# Altium schematic symbol library Schlib1.SchLib: 2 symbols
Pins are listed as number, name and electrical type; pins without a type are passive.

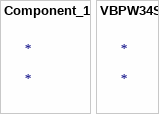
[diagram p0: symbols Component_1 to VBPW34S]

## Component_1
designator *

## VBPW34S
designator *
IR-photodiode Photoelectric current: 45...55 uA Wavelength of max. photosensitivity: 940 nm; Manufacturer: Vishay; Manufacturer Part Number: VBPW34S; Breakdown Voltage: 60V; Dark Current: 30nA; Diode Type: PIN; Fall Time: 100ns; Forward Current: 50mA; Forward Voltage: 1.3V; Max Power Dissipation: 215mW; Number of Circuits: 1; Peak Wavelength: 940nm; Viewing Angle: 130°; Supplier: DigiKey; Supplier Part Number: 751-1500-1-ND; RoHS: Compliant; Category: Photodiodes; Stock: 49982; Pricing: 1=1.17, 10=0.822, 100=0.6118, 500=0.5182 (USD); Case/Package: SMD/SMT; Contact Plating: Tin; Height: 1.2mm; Introduction Date: 2009-10-04; Lead Free: Lead Free; Length: 4.4mm; Lifecycle Status: Production; Max Operating Temperature: 100°C; Max Reverse Voltage (DC): 60V; Min Operating Temperature: -40°C; Mounting Technology: Surface Mount; Pins: 2; Power Dissipation: 215mW; Radiation Hardening: No; REACH SVHC: Yes; Response Time: 100ns; Reverse Breakdown Voltage: 60V; Reverse Voltage: 60V; Reverse Voltage (DC): 60V; Rise Time: 100ns; Schedule B: 8541406010, 8541406010|8541406010|8541406010|8541406010|8541406010; Wavelength: 940nm; Width: 3.9mm; ComponentLink1URL: https://datasheet.octopart.com:443/VBPW34S-Vishay-datasheet-181477396.pdf?src-supplier=IHS; ComponentLink1Description: https://datasheet.octopart.com:443/VBPW34S-Vishay-datasheet-181477396.pdf?src-supplier=IHS; ComponentLink2URL: https://datasheet.octopart.com:443/VBPW34S-Vishay-datasheet-141435336.pdf?src-supplier=Upverter; ComponentLink2Description: https://datasheet.octopart.com:443/VBPW34S-Vishay-datasheet-141435336.pdf?src-supplier=Upverter; ComponentLink3URL: https://datasheet.octopart.com:443/VBPW34S-Vishay-datasheet-8636772.pdf?src-supplier=Farnell; ComponentLink3Description: https://datasheet.octopart.com:443/VBPW34S-Vishay-datasheet-8636772.pdf?src-supplier=Farnell; ComponentLink4URL: https://datasheet.octopart.com:443/VBPW34S-Vishay-datasheet-24897338.pdf?src-supplier=Farnell; ComponentLink4Description: https://datasheet.octopart.com:443/VBPW34S-Vishay-datasheet-24897338.pdf?src-supplier=Farnell; ComponentLink5URL: https://datasheet.octopart.com:443/VBPW34S-Vishay-datasheet-41195834.pdf?src-supplier=Farnell; ComponentLink5Description: https://datasheet.octopart.com:443/VBPW34S-Vishay-datasheet-41195834.pdf?src-supplier=Farnell; ComponentLink6URL: https://datasheet.octopart.com:443/VBPW34S-Vishay-datasheet-62319496.pdf?src-supplier=Newark; ComponentLink6Description: https://datasheet.octopart.com:443/VBPW34S-Vishay-datasheet-62319496.pdf?src-supplier=Newark; ComponentLink7URL: https://datasheet.octopart.com:443/VBPW34S-Vishay-datasheet-8820987.pdf?src-supplier=element14+APAC; ComponentLink7Description: https://datasheet.octopart.com:443/VBPW34S-Vishay-datasheet-8820987.pdf?src-supplier=element14+APAC; ComponentLink8URL: https://datasheet.octopart.com:443/VBPW34S-Vishay-datasheet-108049364.pdf?src-supplier=Future+Electronics; ComponentLink8Description: https://datasheet.octopart.com:443/VBPW34S-Vishay-datasheet-108049364.pdf?src-supplier=Future+Electronics; ComponentLink9URL: https://datasheet.octopart.com:443/VBPW34S-Vishay-datasheet-81857105.pdf?src-supplier=TME; ComponentLink9Description: https://datasheet.octopart.com:443/VBPW34S-Vishay-datasheet-81857105.pdf?src-supplier=TME; ComponentLink10URL: http://sigma.octopart.com:80/rohs_statement/Vishay-company-15.pdf?src-supplier=Compliance+Statements; ComponentLink10Description: http://sigma.octopart.com:80/rohs_statement/Vishay-company-15.pdf?src-supplier=Compliance+Statements